# Altium schematic symbol library Schlib1.SchLib: 1 symbol
Pins are listed as number, name and electrical type; pins without a type are passive.

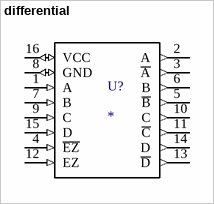
[diagram p0: symbol differential]

## differential
designator U?
pins: 1 A (in), 2 A (out), 3 ~{A} (out), 4 ~{EZ} (in), 5 ~{B} (out), 6 B (out), 7 B (in), 8 GND (io), 9 C (in), 10 C (out), 11 ~{C} (out), 12 EZ (in), 13 ~{D} (out), 14 D (out), 15 D (in), 16 VCC (io)